# Altium integrated library ALTIUM-WS-TASV-rev17b.IntLib: 78 symbols
Pins are listed as number, name and electrical type; pins without a type are passive.

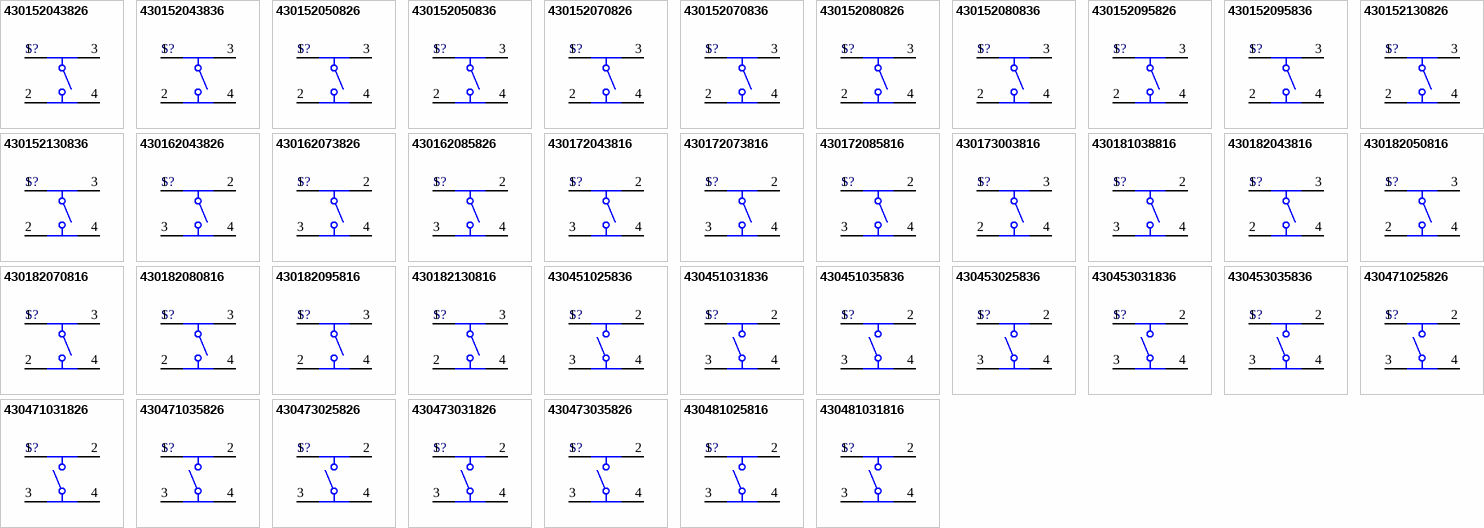
[diagram p0: symbols 430152043826 to 430481031816]

## 430152043826
designator S?
6x6mm SMD Tact Switch WS-TASV, height 4.3 mm, 260 gf; Part Number: 430152043826; Rated Current: 50 mA; Operation Force: 260 gf; Rated Voltage: 12 VDC; ComponentLink1Description: Manufacturer; ComponentLink1URL: http://www.we-online.de; ComponentLink2Description: Datasheet; ComponentLink2URL: http://katalog.we-online.de/em/datasheet/4301x2xxx8x6.pdf; Published Date: Nov. 2017; Publisher: Wurth Elektronik; Life Cycle: 200000; Operating Temperature: -40 to +85 degC; Size: 6x6x4.3 mm
footprint 430152043826
pins: 1, 2, 3, 4

## 430152043836
designator S?
6x6mm SMD Tact Switch WS-TASV, height 4.3 mm, 360 gf; Part Number: 430152043836; Rated Current: 50 mA; Operation Force: 360 gf; Rated Voltage: 12 VDC; ComponentLink1Description: Manufacturer; ComponentLink1URL: http://www.we-online.de; ComponentLink2Description: Datasheet; ComponentLink2URL: http://katalog.we-online.de/em/datasheet/4301x2xxx8x6.pdf; Published Date: Nov. 2017; Publisher: Wurth Elektronik; Life Cycle: 200000; Operating Temperature: -40 to +85 degC; Size: 6x6x4.3 mm
footprint 430152043836
pins: 1, 2, 3, 4

## 430152050826
designator S?
6x6mm SMD Tact Switch WS-TASV, height 5 mm, 260 gf; Part Number: 430152050826; Rated Current: 50 mA; Operation Force: 260 gf; Rated Voltage: 12 VDC; ComponentLink1Description: Manufacturer; ComponentLink1URL: http://www.we-online.de; ComponentLink2Description: Datasheet; ComponentLink2URL: http://katalog.we-online.de/em/datasheet/4301x2xxx8x6.pdf; Published Date: Nov. 2017; Publisher: Wurth Elektronik; Life Cycle: 200000; Operating Temperature: -40 to +85 degC; Size: 6x6x5 mm
footprint 430152050826
pins: 1, 2, 3, 4

## 430152050836
designator S?
6x6mm SMD Tact Switch WS-TASV, height 5 mm, 360 gf; Part Number: 430152050836; Rated Current: 50 mA; Operation Force: 360 gf; Rated Voltage: 12 VDC; ComponentLink1Description: Manufacturer; ComponentLink1URL: http://www.we-online.de; ComponentLink2Description: Datasheet; ComponentLink2URL: http://katalog.we-online.de/em/datasheet/4301x2xxx8x6.pdf; Published Date: Nov. 2017; Publisher: Wurth Elektronik; Life Cycle: 200000; Operating Temperature: -40 to +85 degC; Size: 6x6x5 mm
footprint 430152050836
pins: 1, 2, 3, 4

## 430152070826
designator S?
6x6mm SMD Tact Switch WS-TASV, height 7 mm, 260 gf; Part Number: 430152070826; Rated Current: 50 mA; Operation Force: 260 gf; Rated Voltage: 12 VDC; ComponentLink1Description: Manufacturer; ComponentLink1URL: http://www.we-online.de; ComponentLink2Description: Datasheet; ComponentLink2URL: http://katalog.we-online.de/em/datasheet/4301x2xxx8x6.pdf; Published Date: Nov. 2017; Publisher: Wurth Elektronik; Life Cycle: 200000; Operating Temperature: -40 to +85 degC; Size: 6x6x7 mm
footprint 430152070826
pins: 1, 2, 3, 4

## 430152070836
designator S?
6x6mm SMD Tact Switch WS-TASV, height 7 mm, 360 gf; Part Number: 430152070836; Rated Current: 50 mA; Operation Force: 360 gf; Rated Voltage: 12 VDC; ComponentLink1Description: Manufacturer; ComponentLink1URL: http://www.we-online.de; ComponentLink2Description: Datasheet; ComponentLink2URL: http://katalog.we-online.de/em/datasheet/4301x2xxx8x6.pdf; Published Date: Nov. 2017; Publisher: Wurth Elektronik; Life Cycle: 200000; Operating Temperature: -40 to +85 degC; Size: 6x6x7 mm
footprint 430152070836
pins: 1, 2, 3, 4

## 430152080826
designator S?
6x6mm SMD Tact Switch WS-TASV, height 8 mm, 260 gf; Part Number: 430152080826; Rated Current: 50 mA; Operation Force: 260 gf; Rated Voltage: 12 VDC; ComponentLink1Description: Manufacturer; ComponentLink1URL: http://www.we-online.de; ComponentLink2Description: Datasheet; ComponentLink2URL: http://katalog.we-online.de/em/datasheet/4301x2xxx8x6.pdf; Published Date: Nov. 2017; Publisher: Wurth Elektronik; Life Cycle: 200000; Operating Temperature: -40 to +85 degC; Size: 6x6x8 mm
footprint 430152080826
pins: 1, 2, 3, 4

## 430152080836
designator S?
6x6mm SMD Tact Switch WS-TASV, height 8 mm, 360 gf; Part Number: 430152080836; Rated Current: 50 mA; Operation Force: 360 gf; Rated Voltage: 12 VDC; ComponentLink1Description: Manufacturer; ComponentLink1URL: http://www.we-online.de; ComponentLink2Description: Datasheet; ComponentLink2URL: http://katalog.we-online.de/em/datasheet/4301x2xxx8x6.pdf; Published Date: Nov. 2017; Publisher: Wurth Elektronik; Life Cycle: 200000; Operating Temperature: -40 to +85 degC; Size: 6x6x8 mm
footprint 430152080836
pins: 1, 2, 3, 4

## 430152095826
designator S?
6x6mm SMD Tact Switch WS-TASV, height 9.5 mm, 260 gf; Part Number: 430152095826; Rated Current: 50 mA; Operation Force: 260 gf; Rated Voltage: 12 VDC; ComponentLink1Description: Manufacturer; ComponentLink1URL: http://www.we-online.de; ComponentLink2Description: Datasheet; ComponentLink2URL: http://katalog.we-online.de/em/datasheet/4301x2xxx8x6.pdf; Published Date: Nov. 2017; Publisher: Wurth Elektronik; Life Cycle: 200000; Operating Temperature: -40 to +85 degC; Size: 6x6x9.5 mm
footprint 430152095826
pins: 1, 2, 3, 4

## 430152095836
designator S?
6x6mm SMD Tact Switch WS-TASV, height 9.5 mm, 360 gf; Part Number: 430152095836; Rated Current: 50 mA; Operation Force: 360 gf; Rated Voltage: 12 VDC; ComponentLink1Description: Manufacturer; ComponentLink1URL: http://www.we-online.de; ComponentLink2Description: Datasheet; ComponentLink2URL: http://katalog.we-online.de/em/datasheet/4301x2xxx8x6.pdf; Published Date: Nov. 2017; Publisher: Wurth Elektronik; Life Cycle: 200000; Operating Temperature: -40 to +85 degC; Size: 6x6x9.5 mm
footprint 430152095836
pins: 1, 2, 3, 4

## 430152130826
designator S?
6x6mm SMD Tact Switch WS-TASV, height 13 mm, 260 gf; Part Number: 430152130826; Rated Current: 50 mA; Operation Force: 260 gf; Rated Voltage: 12 VDC; ComponentLink1Description: Manufacturer; ComponentLink1URL: http://www.we-online.de; ComponentLink2Description: Datasheet; ComponentLink2URL: http://katalog.we-online.de/em/datasheet/4301x2xxx8x6.pdf; Published Date: Nov. 2017; Publisher: Wurth Elektronik; Life Cycle: 200000; Operating Temperature: -40 to +85 degC; Size: 6x6x13 mm
footprint 430152130826
pins: 1, 2, 3, 4

## 430152130836
designator S?
6x6mm SMD Tact Switch WS-TASV, height 13 mm, 360 gf; Part Number: 430152130836; Rated Current: 50 mA; Operation Force: 360 gf; Rated Voltage: 12 VDC; ComponentLink1Description: Manufacturer; ComponentLink1URL: http://www.we-online.de; ComponentLink2Description: Datasheet; ComponentLink2URL: http://katalog.we-online.de/em/datasheet/4301x2xxx8x6.pdf; Published Date: Nov. 2017; Publisher: Wurth Elektronik; Life Cycle: 200000; Operating Temperature: -40 to +85 degC; Size: 6x6x13 mm
footprint 430152130836
pins: 1, 2, 3, 4

## 430162043826
designator S?
12x12mm SMD WS-TASV, height 4.3 mm, 260 gf; Part Number: 430162043826; Rated Current: 50 mA; Operation Force: 260 gf; Rated Voltage: 12 VDC; ComponentLink1Description: Manufacturer; ComponentLink1URL: http://www.we-online.de; ComponentLink2Description: Datasheet; ComponentLink2URL: http://katalog.we-online.de/em/datasheet/4301x20438x6.pdf; Published Date: Nov. 2017; Publisher: Wurth Elektronik; Life Cycle: 300000; Operating Temperature: -40 to +85 degC; Size: 12x12x4.3 mm
footprint 430162043826
pins: 1, 2, 3, 4

## 430162073826
designator S?
12x12mm SMD WS-TASV, height 7.3 mm, 260 gf; Part Number: 430162073826; Rated Current: 50 mA; Operation Force: 260 gf; Rated Voltage: 12 VDC; ComponentLink1Description: Manufacturer; ComponentLink1URL: http://www.we-online.de; ComponentLink2Description: Datasheet; ComponentLink2URL: http://katalog.we-online.de/em/datasheet/430162073826.pdf; Published Date: Nov. 2017; Publisher: Wurth Elektronik; Life Cycle: 300000; Operating Temperature: -40 to +85 degC; Size: 12x12x7.3 mm
footprint 430162073826
pins: 1, 2, 3, 4

## 430162085826
designator S?
12x12mm SMD WS-TASV, height 8.5 mm, 260 gf; Part Number: 430162085826; Rated Current: 50 mA; Operation Force: 260 gf; Rated Voltage: 12 VDC; ComponentLink1Description: Manufacturer; ComponentLink1URL: http://www.we-online.de; ComponentLink2Description: Datasheet; ComponentLink2URL: http://katalog.we-online.de/em/datasheet/4301x20858x6.pdf; Published Date: Nov. 2017; Publisher: Wurth Elektronik; Life Cycle: 300000; Operating Temperature: -40 to +85 degC; Size: 12x12x8.5 mm
footprint 430162085826
pins: 1, 2, 3, 4

## 430172043816
designator S?
12x12mm SMD WS-TASV, height 4.3 mm, 160 gf; Part Number: 430172043816; Rated Current: 50 mA; Operation Force: 160 gf; Rated Voltage: 12 VDC; ComponentLink1Description: Manufacturer; ComponentLink1URL: http://www.we-online.de; ComponentLink2Description: Datasheet; ComponentLink2URL: http://katalog.we-online.de/em/datasheet/4301x20438x6.pdf; Published Date: Nov. 2017; Publisher: Wurth Elektronik; Life Cycle: 500000; Operating Temperature: -40 to +85 degC; Size: 12x12x4.3 mm
footprint 430172043816
pins: 1, 2, 3, 4

## 430172073816
designator S?
12x12mm SMD WS-TASV, height 7.3 mm, 160 gf; Part Number: 430172073816; Rated Current: 50 mA; Operation Force: 160 gf; Rated Voltage: 12 VDC; ComponentLink1Description: Manufacturer; ComponentLink1URL: http://www.we-online.de; ComponentLink2Description: Datasheet; ComponentLink2URL: http://katalog.we-online.de/em/datasheet/4301x20738x6.pdf; Published Date: Nov. 2017; Publisher: Wurth Elektronik; Life Cycle: 500000; Operating Temperature: -40 to +85 degC; Size: 12x12x7.3 mm
footprint 430172073816
pins: 1, 2, 3, 4

## 430172085816
designator S?
12x12mm SMD WS-TASV, height 8.5 mm, 160 gf; Part Number: 430172085816; Rated Current: 50 mA; Operation Force: 160 gf; Rated Voltage: 12 VDC; ComponentLink1Description: Manufacturer; ComponentLink1URL: http://www.we-online.de; ComponentLink2Description: Datasheet; ComponentLink2URL: http://katalog.we-online.de/em/datasheet/4301x20858x6.pdf; Published Date: Nov. 2017; Publisher: Wurth Elektronik; Life Cycle: 500000; Operating Temperature: -40 to +85 degC; Size: 12x12x8.5 mm
footprint 430172085816
pins: 1, 2, 3, 4

## 430173003816
designator S?
3.7x3.7mm J-Bend SMD Tact Switch WS-TASV, height 0.35 mm, 160 gf; Part Number: 430173003816; Rated Current: 50 mA; Operation Force: 160 gf; Rated Voltage: 12 VDC; ComponentLink1Description: Manufacturer; ComponentLink1URL: http://www.we-online.de; ComponentLink2Description: Datasheet; ComponentLink2URL: http://katalog.we-online.de/em/datasheet/430173003816.pdf; Published Date: Nov. 2017; Publisher: Wurth Elektronik; Life Cycle: 500000; Operating Temperature: -40 to +85 degC; Size: 3.7x3.7x0.35 mm
footprint 430173003816
pins: 1, 2, 3, 4

## 430181038816
designator S?
4.5x4.5mm SMD WS-TASV, height 3.8 mm, 160 gf; Part Number: 430181038816; Rated Current: 50 mA; Operation Force: 160 gf; Rated Voltage: 12 VDC; ComponentLink1Description: Manufacturer; ComponentLink1URL: http://www.we-online.de; ComponentLink2Description: Datasheet; ComponentLink2URL: http://katalog.we-online.de/em/datasheet/430181038816.pdf; Published Date: Nov. 2017; Publisher: Wurth Elektronik; Life Cycle: 1000000; Operating Temperature: -40 to +85 degC; Size: 4.5x4.5x3.8 mm
footprint 430181038816
pins: 1, 2, 3, 4

## 430182043816
designator S?
6x6mm SMD Tact Switch WS-TASV, height 4.3 mm, 160 gf; Part Number: 430182043816; Rated Current: 50 mA; Operation Force: 160 gf; Rated Voltage: 12 VDC; ComponentLink1Description: Manufacturer; ComponentLink1URL: http://www.we-online.de; ComponentLink2Description: Datasheet; ComponentLink2URL: http://katalog.we-online.de/em/datasheet/4301x2xxx8x6.pdf; Published Date: Nov. 2017; Publisher: Wurth Elektronik; Life Cycle: 1000000; Operating Temperature: -40 to +85 degC; Size: 6x6x4.3 mm
footprint 430182043816
pins: 1, 2, 3, 4

## 430182050816
designator S?
6x6mm SMD Tact Switch WS-TASV, height 5 mm, 160 gf; Part Number: 430182050816; Rated Current: 50 mA; Operation Force: 160 gf; Rated Voltage: 12 VDC; ComponentLink1Description: Manufacturer; ComponentLink1URL: http://www.we-online.de; ComponentLink2Description: Datasheet; ComponentLink2URL: http://katalog.we-online.de/em/datasheet/4301x2xxx8x6.pdf; Published Date: Nov. 2017; Publisher: Wurth Elektronik; Life Cycle: 1000000; Operating Temperature: -40 to +85 degC; Size: 6x6x5 mm
footprint 430182050816
pins: 1, 2, 3, 4

## 430182070816
designator S?
6x6mm SMD Tact Switch WS-TASV, height 7 mm, 160 gf; Part Number: 430182070816; Rated Current: 50 mA; Operation Force: 160 gf; Rated Voltage: 12 VDC; ComponentLink1Description: Manufacturer; ComponentLink1URL: http://www.we-online.de; ComponentLink2Description: Datasheet; ComponentLink2URL: http://katalog.we-online.de/em/datasheet/4301x2xxx8x6.pdf; Published Date: Nov. 2017; Publisher: Wurth Elektronik; Life Cycle: 1000000; Operating Temperature: -40 to +85 degC; Size: 6x6x7 mm
footprint 430182070816
pins: 1, 2, 3, 4

## 430182080816
designator S?
6x6mm SMD Tact Switch WS-TASV, height 8 mm, 160 gf; Part Number: 430182080816; Rated Current: 50 mA; Operation Force: 160 gf; Rated Voltage: 12 VDC; ComponentLink1Description: Manufacturer; ComponentLink1URL: http://www.we-online.de; ComponentLink2Description: Datasheet; ComponentLink2URL: http://katalog.we-online.de/em/datasheet/4301x2xxx8x6.pdf; Published Date: Nov. 2017; Publisher: Wurth Elektronik; Life Cycle: 1000000; Operating Temperature: -40 to +85 degC; Size: 6x6x8 mm
footprint 430182080816
pins: 1, 2, 3, 4

## 430182095816
designator S?
6x6mm SMD Tact Switch WS-TASV, height 9.5 mm, 160 gf; Part Number: 430182095816; Rated Current: 50 mA; Operation Force: 160 gf; Rated Voltage: 12 VDC; ComponentLink1Description: Manufacturer; ComponentLink1URL: http://www.we-online.de; ComponentLink2Description: Datasheet; ComponentLink2URL: http://katalog.we-online.de/em/datasheet/4301x2xxx8x6.pdf; Published Date: Nov. 2017; Publisher: Wurth Elektronik; Life Cycle: 1000000; Operating Temperature: -40 to +85 degC; Size: 6x6x9.5 mm
footprint 430182095816
pins: 1, 2, 3, 4

## 430182130816
designator S?
6x6mm SMD Tact Switch WS-TASV, height 13 mm, 160 gf; Part Number: 430182130816; Rated Current: 50 mA; Operation Force: 160 gf; Rated Voltage: 12 VDC; ComponentLink1Description: Manufacturer; ComponentLink1URL: http://www.we-online.de; ComponentLink2Description: Datasheet; ComponentLink2URL: http://katalog.we-online.de/em/datasheet/4301x2xxx8x6.pdf; Published Date: Nov. 2017; Publisher: Wurth Elektronik; Life Cycle: 1000000; Operating Temperature: -40 to +85 degC; Size: 6x6x13 mm
footprint 430182130816
pins: 1, 2, 3, 4

## 430451025836
designator S?
6x6mm SMD washable WS-TASV, height 2.5 mm, 360 gf; Part Number: 430451025836; Rated Current: 50 mA; Operation Force: 360 gf; Rated Voltage: 12 VDC; ComponentLink1Description: Manufacturer; ComponentLink1URL: http://www.we-online.de; ComponentLink2Description: Datasheet; ComponentLink2URL: http://katalog.we-online.de/em/datasheet/4304x1xxx8x6.pdf; Published Date: Nov. 2017; Publisher: Wurth Elektronik; Life Cycle: 200000; Operating Temperature: -40 to +85 degC; Size: 6x6x2.5 mm
footprint 430451025836
pins: 1, 2, 3, 4

## 430451031836
designator S?
6x6mm SMD washable WS-TASV, height 3.1 mm, 360 gf; Part Number: 430451031836; Rated Current: 50 mA; Operation Force: 360 gf; Rated Voltage: 12 VDC; ComponentLink1Description: Manufacturer; ComponentLink1URL: http://www.we-online.de; ComponentLink2Description: Datasheet; ComponentLink2URL: http://katalog.we-online.de/em/datasheet/4304x1xxx8x6.pdf; Published Date: Nov. 2017; Publisher: Wurth Elektronik; Life Cycle: 200000; Operating Temperature: -40 to +85 degC; Size: 6x6x3.1 mm
footprint 430451031836
pins: 1, 2, 3, 4

## 430451035836
designator S?
6x6mm SMD washable WS-TASV, height 3.5 mm, 360 gf; Part Number: 430451035836; Rated Current: 50 mA; Operation Force: 360 gf; Rated Voltage: 12 VDC; ComponentLink1Description: Manufacturer; ComponentLink1URL: http://www.we-online.de; ComponentLink2Description: Datasheet; ComponentLink2URL: http://katalog.we-online.de/em/datasheet/4304x1xxx8x6.pdf; Published Date: Nov. 2017; Publisher: Wurth Elektronik; Life Cycle: 200000; Operating Temperature: -40 to +85 degC; Size: 6x6x3.5 mm
footprint 430451035836
pins: 1, 2, 3, 4

## 430453025836
designator S?
6x6mm SMD J-Bend washable WS-TASV, height 2.5 mm, 360 gf; Part Number: 430453025836; Rated Current: 50 mA; Operation Force: 360 gf; Rated Voltage: 12 VDC; ComponentLink1Description: Manufacturer; ComponentLink1URL: http://www.we-online.de; ComponentLink2Description: Datasheet; ComponentLink2URL: http://katalog.we-online.de/em/datasheet/4304x3xxx8x6.pdf; Published Date: Nov. 2017; Publisher: Wurth Elektronik; Life Cycle: 200000; Operating Temperature: -40 to +85 degC; Size: 6x6x2.5 mm
footprint 430453025836
pins: 1, 2, 3, 4

## 430453031836
designator S?
6x6mm SMD J-Bend washable WS-TASV, height 3.1 mm, 360 gf; Part Number: 430453031836; Rated Current: 50 mA; Operation Force: 360 gf; Rated Voltage: 12 VDC; ComponentLink1Description: Manufacturer; ComponentLink1URL: http://www.we-online.de; ComponentLink2Description: Datasheet; ComponentLink2URL: http://katalog.we-online.de/em/datasheet/4304x3xxx8x6.pdf; Published Date: Nov. 2017; Publisher: Wurth Elektronik; Life Cycle: 200000; Operating Temperature: -40 to +85 degC; Size: 6x6x3.1 mm
footprint 430453031836
pins: 1, 2, 3, 4

## 430453035836
designator S?
6x6mm SMD J-Bend washable WS-TASV, height 3.5 mm, 360 gf; Part Number: 430453035836; Rated Current: 50 mA; Operation Force: 360 gf; Rated Voltage: 12 VDC; ComponentLink1Description: Manufacturer; ComponentLink1URL: http://www.we-online.de; ComponentLink2Description: Datasheet; ComponentLink2URL: http://katalog.we-online.de/em/datasheet/4304x3xxx8x6.pdf; Published Date: Nov. 2017; Publisher: Wurth Elektronik; Life Cycle: 200000; Operating Temperature: -40 to +85 degC; Size: 6x6x3.5 mm
footprint 430453035836
pins: 1, 2, 3, 4

## 430471025826
designator S?
6x6mm SMD washable WS-TASV, height 2.5 mm, 260 gf; Part Number: 430471025826; Rated Current: 50 mA; Operation Force: 260 gf; Rated Voltage: 12 VDC; ComponentLink1Description: Manufacturer; ComponentLink1URL: http://www.we-online.de; ComponentLink2Description: Datasheet; ComponentLink2URL: http://katalog.we-online.de/em/datasheet/4304x1xxx8x6.pdf; Published Date: Nov. 2017; Publisher: Wurth Elektronik; Life Cycle: 500000; Operating Temperature: -40 to +85 degC; Size: 6x6x2.5 mm
footprint 430471025826
pins: 1, 2, 3, 4

## 430471031826
designator S?
6x6mm SMD washable WS-TASV, height 3.1 mm, 260 gf; Part Number: 430471031826; Rated Current: 50 mA; Operation Force: 260 gf; Rated Voltage: 12 VDC; ComponentLink1Description: Manufacturer; ComponentLink1URL: http://www.we-online.de; ComponentLink2Description: Datasheet; ComponentLink2URL: http://katalog.we-online.de/em/datasheet/4304x1xxx8x6.pdf; Published Date: Nov. 2017; Publisher: Wurth Elektronik; Life Cycle: 500000; Operating Temperature: -40 to +85 degC; Size: 6x6x3.1 mm
footprint 430471031826
pins: 1, 2, 3, 4

## 430471035826
designator S?
6x6mm SMD washable WS-TASV, height 3.5 mm, 260 gf; Part Number: 430471035826; Rated Current: 50 mA; Operation Force: 260 gf; Rated Voltage: 12 VDC; ComponentLink1Description: Manufacturer; ComponentLink1URL: http://www.we-online.de; ComponentLink2Description: Datasheet; ComponentLink2URL: http://katalog.we-online.de/em/datasheet/4304x1xxx8x6.pdf; Published Date: Nov. 2017; Publisher: Wurth Elektronik; Life Cycle: 500000; Operating Temperature: -40 to +85 degC; Size: 6x6x3.5 mm
footprint 430471035826
pins: 1, 2, 3, 4

## 430473025826
designator S?
6x6mm SMD J-Bend washable WS-TASV, height 2.5 mm, 260 gf; Part Number: 430473025826; Rated Current: 50 mA; Operation Force: 260 gf; Rated Voltage: 12 VDC; ComponentLink1Description: Manufacturer; ComponentLink1URL: http://www.we-online.de; ComponentLink2Description: Datasheet; ComponentLink2URL: http://katalog.we-online.de/em/datasheet/4304x3xxx8x6.pdf; Published Date: Nov. 2017; Publisher: Wurth Elektronik; Life Cycle: 500000; Operating Temperature: -40 to +85 degC; Size: 6x6x2.5 mm
footprint 430473025826
pins: 1, 2, 3, 4

## 430473031826
designator S?
6x6mm SMD J-Bend washable WS-TASV, height 3.1 mm, 260 gf; Part Number: 430473031826; Rated Current: 50 mA; Operation Force: 260 gf; Rated Voltage: 12 VDC; ComponentLink1Description: Manufacturer; ComponentLink1URL: http://www.we-online.de; ComponentLink2Description: Datasheet; ComponentLink2URL: http://katalog.we-online.de/em/datasheet/4304x3xxx8x6.pdf; Published Date: Nov. 2017; Publisher: Wurth Elektronik; Life Cycle: 500000; Operating Temperature: -40 to +85 degC; Size: 6x6x3.1 mm
footprint 430473031826
pins: 1, 2, 3, 4

## 430473035826
designator S?
6x6mm SMD J-Bend washable WS-TASV, height 3.5 mm, 260 gf; Part Number: 430473035826; Rated Current: 50 mA; Operation Force: 260 gf; Rated Voltage: 12 VDC; ComponentLink1Description: Manufacturer; ComponentLink1URL: http://www.we-online.de; ComponentLink2Description: Datasheet; ComponentLink2URL: http://katalog.we-online.de/em/datasheet/4304x3xxx8x6.pdf; Published Date: Nov. 2017; Publisher: Wurth Elektronik; Life Cycle: 500000; Operating Temperature: -40 to +85 degC; Size: 6x6x3.5 mm
footprint 430473035826
pins: 1, 2, 3, 4

## 430481025816
designator S?
6x6mm SMD washable WS-TASV, height 2.5 mm, 160 gf; Part Number: 430481025816; Rated Current: 50 mA; Operation Force: 160 gf; Rated Voltage: 12 VDC; ComponentLink1Description: Manufacturer; ComponentLink1URL: http://www.we-online.de; ComponentLink2Description: Datasheet; ComponentLink2URL: http://katalog.we-online.de/em/datasheet/4304x1xxx8x6.pdf; Published Date: Nov. 2017; Publisher: Wurth Elektronik; Life Cycle: 1000000; Operating Temperature: -40 to +85 degC; Size: 6x6x2.5 mm
footprint 430481025816
pins: 1, 2, 3, 4

## 430481031816
designator S?
6x6mm SMD washable WS-TASV, height 3.1 mm, 160 gf; Part Number: 430481031816; Rated Current: 50 mA; Operation Force: 160 gf; Rated Voltage: 12 VDC; ComponentLink1Description: Manufacturer; ComponentLink1URL: http://www.we-online.de; ComponentLink2Description: Datasheet; ComponentLink2URL: http://katalog.we-online.de/em/datasheet/4304x1xxx8x6.pdf; Published Date: Nov. 2017; Publisher: Wurth Elektronik; Life Cycle: 1000000; Operating Temperature: -40 to +85 degC; Size: 6x6x3.1 mm
footprint 430481031816
pins: 1, 2, 3, 4

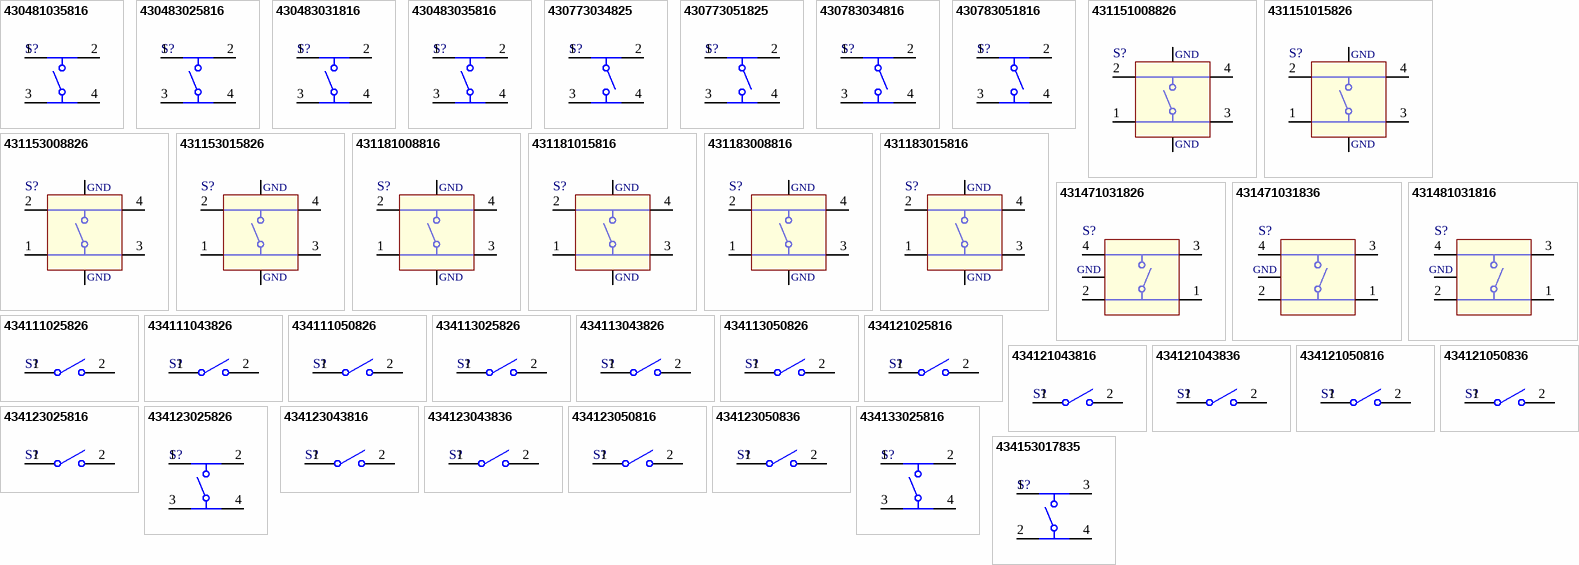
[diagram p1: symbols 430481035816 to 434153017835]

## 430481035816
designator S?
6x6mm SMD washable WS-TASV, height 3.5 mm, 160 gf; Part Number: 430481035816; Rated Current: 50 mA; Operation Force: 160 gf; Rated Voltage: 12 VDC; ComponentLink1Description: Manufacturer; ComponentLink1URL: http://www.we-online.de; ComponentLink2Description: Datasheet; ComponentLink2URL: http://katalog.we-online.de/em/datasheet/4304x1xxx8x6.pdf; Published Date: Nov. 2017; Publisher: Wurth Elektronik; Life Cycle: 1000000; Operating Temperature: -40 to +85 degC; Size: 6x6x3.5 mm
footprint 430481035816
pins: 1, 2, 3, 4

## 430483025816
designator S?
6x6mm SMD J-Bend washable WS-TASV, height 2.5 mm, 160 gf; Part Number: 430483025816; Rated Current: 50 mA; Operation Force: 160 gf; Rated Voltage: 12 VDC; ComponentLink1Description: Manufacturer; ComponentLink1URL: http://www.we-online.de; ComponentLink2Description: Datasheet; ComponentLink2URL: http://katalog.we-online.de/em/datasheet/4304x3xxx8x6.pdf; Published Date: Nov. 2017; Publisher: Wurth Elektronik; Life Cycle: 1000000; Operating Temperature: -40 to +85 degC; Size: 6x6x2.5 mm
footprint 430483025816
pins: 1, 2, 3, 4

## 430483031816
designator S?
6x6mm SMD J-Bend washable WS-TASV, height 3.1 mm, 160 gf; Part Number: 430483031816; Rated Current: 50 mA; Operation Force: 160 gf; Rated Voltage: 12 VDC; ComponentLink1Description: Manufacturer; ComponentLink1URL: http://www.we-online.de; ComponentLink2Description: Datasheet; ComponentLink2URL: http://katalog.we-online.de/em/datasheet/4304x3xxx8x6.pdf; Published Date: Nov. 2017; Publisher: Wurth Elektronik; Life Cycle: 1000000; Operating Temperature: -40 to +85 degC; Size: 6x6x3.1 mm
footprint 430483031816
pins: 1, 2, 3, 4

## 430483035816
designator S?
6x6mm SMD J-Bend washable WS-TASV, height 3.5 mm, 160 gf; Part Number: 430483035816; Rated Current: 50 mA; Operation Force: 160 gf; Rated Voltage: 12 VDC; ComponentLink1Description: Manufacturer; ComponentLink1URL: http://www.we-online.de; ComponentLink2Description: Datasheet; ComponentLink2URL: http://katalog.we-online.de/em/datasheet/4304x3xxx8x6.pdf; Published Date: Nov. 2017; Publisher: Wurth Elektronik; Life Cycle: 1000000; Operating Temperature: -40 to +85 degC; Size: 6x6x3.5 mm
footprint 430483035816
pins: 1, 2, 3, 4

## 430773034825
designator S?
6x6mm J-Hook SMD Hermetic Tact Switch WS-TASV, height 3.4 mm, 250 gf; Part Number: 430773034825; Rated Current: 50 mA; Operation Force: 250 gf; Rated Voltage: 12 VDC; ComponentLink1Description: Manufacturer; ComponentLink1URL: http://www.we-online.de; ComponentLink2Description: Datasheet; ComponentLink2URL: http://katalog.we-online.de/em/datasheet/430773034825.pdf; Published Date: Nov. 2017; Publisher: Wurth Elektronik; Life Cycle: 500000; Operating Temperature: -40 to +85 degC; Size: 6x6x3.4 mm
footprint 430773034825
pins: 1, 2, 3, 4

## 430773051825
designator S?
6x6mm J-Hook SMD Hermetic Tact Switch WS-TASV, height 5.1 mm, 250 gf; Part Number: 430773051825; Rated Current: 50 mA; Operation Force: 250 gf; Rated Voltage: 12 VDC; ComponentLink1Description: Manufacturer; ComponentLink1URL: http://www.we-online.de; ComponentLink2Description: Datasheet; ComponentLink2URL: http://katalog.we-online.de/em/datasheet/430773051825.pdf; Published Date: Nov. 2017; Publisher: Wurth Elektronik; Life Cycle: 500000; Operating Temperature: -40 to +85 degC; Size: 6x6x5.1 mm
footprint 430773051825
pins: 1, 2, 3, 4

## 430783034816
designator S?
6x6mm J-Hook SMD Hermetic Tact Switch WS-TASV, height 3.4 mm, 160 gf; Part Number: 430783034816; Rated Current: 50 mA; Operation Force: 160 gf; Rated Voltage: 12 VDC; ComponentLink1Description: Manufacturer; ComponentLink1URL: http://www.we-online.de; ComponentLink2Description: Datasheet; ComponentLink2URL: http://katalog.we-online.de/em/datasheet/430783034816.pdf; Published Date: Nov. 2017; Publisher: Wurth Elektronik; Life Cycle: 1000000; Operating Temperature: -40 to +85 degC; Size: 6x6x3.4 mm
footprint 430783034816
pins: 1, 2, 3, 4

## 430783051816
designator S?
6x6mm J-Hook SMD Hermetic Tact Switch WS-TASV, height 5.1 mm, 160 gf; Part Number: 430783051816; Rated Current: 50 mA; Operation Force: 160 gf; Rated Voltage: 12 VDC; ComponentLink1Description: Manufacturer; ComponentLink1URL: http://www.we-online.de; ComponentLink2Description: Datasheet; ComponentLink2URL: http://katalog.we-online.de/em/datasheet/430783051816.pdf; Published Date: Nov. 2017; Publisher: Wurth Elektronik; Life Cycle: 1000000; Operating Temperature: -40 to +85 degC; Size: 6x6x5.1 mm
footprint 430783051816
pins: 1, 2, 3, 4

## 431151008826
designator S?
5x5mm SMD with ground terminal WS-TASV, height 0.8 mm, 260 gf; Part Number: 431151008826; Rated Current: 20 mA; Operation Force: 260 gf; Rated Voltage: 15 VDC; ComponentLink1Description: Manufacturer; ComponentLink1URL: http://www.we-online.de; ComponentLink2Description: Datasheet; ComponentLink2URL: http://katalog.we-online.de/em/datasheet/4311x10088x6.pdf; Published Date: Nov. 2017; Publisher: Wurth Elektronik; Life Cycle: 200000; Operating Temperature: -40 to +85 degC; Size: 5x5x0.8 mm
footprint 431151008826
pins: 1, 2, 3, 4, GND1 GND, GND2 GND

## 431151015826
designator S?
5x5mm SMD with ground terminal WS-TASV, height 1.5 mm, 260 gf; Part Number: 431151015826; Rated Current: 20 mA; Operation Force: 260 gf; Rated Voltage: 15 VDC; ComponentLink1Description: Manufacturer; ComponentLink1URL: http://www.we-online.de; ComponentLink2Description: Datasheet; ComponentLink2URL: http://katalog.we-online.de/em/datasheet/4311x10158x6.pdf; Published Date: Nov. 2017; Publisher: Wurth Elektronik; Life Cycle: 200000; Operating Temperature: -40 to +85 degC; Size: 5x5x1.5 mm
footprint 431151015826
pins: 1, 2, 3, 4, GND1 GND, GND2 GND

## 431153008826
designator S?
5x5mm J-Bend SMD with ground terminal WS-TASV, height 0.8 mm, 260 gf; Part Number: 431153008826; Rated Current: 20 mA; Operation Force: 260 gf; Rated Voltage: 15 VDC; ComponentLink1Description: Manufacturer; ComponentLink1URL: http://www.we-online.de; ComponentLink2Description: Datasheet; ComponentLink2URL: http://katalog.we-online.de/em/datasheet/4311x30088x6.pdf; Published Date: Nov. 2017; Publisher: Wurth Elektronik; Life Cycle: 200000; Operating Temperature: -40 to +85 degC; Size: 5x5x0.8 mm
footprint 431153008826
pins: 1, 2, 3, 4, GND1 GND, GND2 GND

## 431153015826
designator S?
5x5mm J-Bend SMD with ground terminal WS-TASV, height 1.5 mm, 260 gf; Part Number: 431153015826; Rated Current: 20 mA; Operation Force: 260 gf; Rated Voltage: 15 VDC; ComponentLink1Description: Manufacturer; ComponentLink1URL: http://www.we-online.de; ComponentLink2Description: Datasheet; ComponentLink2URL: http://katalog.we-online.de/em/datasheet/4311x30158x6.pdf; Published Date: Nov. 2017; Publisher: Wurth Elektronik; Life Cycle: 200000; Operating Temperature: -40 to +85 degC; Size: 5x5x1.5 mm
footprint 431153015826
pins: 1, 2, 3, 4, GND1 GND, GND2 GND

## 431181008816
designator S?
5x5mm SMD with ground terminal WS-TASV, height 0.8 mm, 160 gf; Part Number: 431181008816; Rated Current: 20 mA; Operation Force: 160 gf; Rated Voltage: 15 VDC; ComponentLink1Description: Manufacturer; ComponentLink1URL: http://www.we-online.de; ComponentLink2Description: Datasheet; ComponentLink2URL: http://katalog.we-online.de/em/datasheet/4311x10088x6.pdf; Published Date: Nov. 2017; Publisher: Wurth Elektronik; Life Cycle: 1000000; Operating Temperature: -40 to +85 degC; Size: 5x5x0.8 mm
footprint 431181008816
pins: 1, 2, 3, 4, GND1 GND, GND2 GND

## 431181015816
designator S?
5x5mm SMD with ground terminal WS-TASV, height 1.5 mm, 160 gf; Part Number: 431181015816; Rated Current: 20 mA; Operation Force: 160 gf; Rated Voltage: 15 VDC; ComponentLink1Description: Manufacturer; ComponentLink1URL: http://www.we-online.de; ComponentLink2Description: Datasheet; ComponentLink2URL: http://katalog.we-online.de/em/datasheet/4311x10158x6.pdf; Published Date: Nov. 2017; Publisher: Wurth Elektronik; Life Cycle: 1000000; Operating Temperature: -40 to +85 degC; Size: 5x5x1.5 mm
footprint 431181015816 (Tact Switch, SMD, body 5x5mm)
pins: 1, 2, 3, 4, GND1 GND, GND2 GND

## 431183008816
designator S?
5x5mm J-Bend SMD with ground terminal WS-TASV, height 0.8 mm, 160 gf; Part Number: 431183008816; Rated Current: 20 mA; Operation Force: 160 gf; Rated Voltage: 15 VDC; ComponentLink1Description: Manufacturer; ComponentLink1URL: http://www.we-online.de; ComponentLink2Description: Datasheet; ComponentLink2URL: http://katalog.we-online.de/em/datasheet/4311x30088x6.pdf; Published Date: Nov. 2017; Publisher: Wurth Elektronik; Life Cycle: 1000000; Operating Temperature: -40 to +85 degC; Size: 5x5x0.8 mm
footprint 431183008816
pins: 1, 2, 3, 4, GND1 GND, GND2 GND

## 431183015816
designator S?
5x5mm J-Bend SMD with ground terminal WS-TASV, height 1.5 mm, 160 gf; Part Number: 431183015816; Rated Current: 20 mA; Operation Force: 160 gf; Rated Voltage: 15 VDC; ComponentLink1Description: Manufacturer; ComponentLink1URL: http://www.we-online.de; ComponentLink2Description: Datasheet; ComponentLink2URL: http://katalog.we-online.de/em/datasheet/4311x30158x6.pdf; Published Date: Nov. 2017; Publisher: Wurth Elektronik; Life Cycle: 1000000; Operating Temperature: -40 to +85 degC; Size: 5x5x1.5 mm
footprint 431183015816
pins: 1, 2, 3, 4, GND1 GND, GND2 GND

## 431471031826
designator S?
6x6mm SMD with ground terminal WS-TASV, height 3.1 mm, 260 gf; Part Number: 431471031826; Rated Current: 50 mA; Operation Force: 260 gf; Rated Voltage: 12 VDC; ComponentLink1Description: Manufacturer; ComponentLink1URL: http://www.we-online.de; ComponentLink2Description: Datasheet; ComponentLink2URL: http://katalog.we-online.de/em/datasheet/4314x10318x6.pdf; Published Date: Nov. 2017; Publisher: Wurth Elektronik; Life Cycle: 500000; Operating Temperature: -40 to +85 degC; Size: 6x6x3.1 mm
footprint 431471031826
pins: 1, 2, 3, 4, GND

## 431471031836
designator S?
6x6mm SMD with ground terminal WS-TASV, height 3.1 mm, 360 gf; Part Number: 431471031836; Rated Current: 50 mA; Operation Force: 360 gf; Rated Voltage: 12 VDC; ComponentLink1Description: Manufacturer; ComponentLink1URL: http://www.we-online.de; ComponentLink2Description: Datasheet; ComponentLink2URL: http://katalog.we-online.de/em/datasheet/4314x10318x6.pdf; Published Date: Nov. 2017; Publisher: Wurth Elektronik; Life Cycle: 500000; Operating Temperature: -40 to +85 degC; Size: 6x6x3.1 mm
footprint 431471031836
pins: 1, 2, 3, 4, GND

## 431481031816
designator S?
6x6mm SMD with ground terminal WS-TASV, height 3.1 mm, 160 gf; Part Number: 431481031816; Rated Current: 50 mA; Operation Force: 160 gf; Rated Voltage: 12 VDC; ComponentLink1Description: Manufacturer; ComponentLink1URL: http://www.we-online.de; ComponentLink2Description: Datasheet; ComponentLink2URL: http://katalog.we-online.de/em/datasheet/4314x10318x6.pdf; Published Date: Nov. 2017; Publisher: Wurth Elektronik; Life Cycle: 1000000; Operating Temperature: -40 to +85 degC; Size: 6x6x3.1 mm
footprint 431481031816
pins: 1, 2, 3, 4, GND

## 434111025826
designator S?
6x3.8mm SMD WS-TASV, height 2.5 mm, 260 gf; Part Number: 434111025826; Rated Current: 50 mA; Operation Force: 260 gf; Rated Voltage: 12 VDC; ComponentLink1Description: Manufacturer; ComponentLink1URL: http://www.we-online.de; ComponentLink2Description: Datasheet; ComponentLink2URL: http://katalog.we-online.de/em/datasheet/4341x10258xx.pdf; Published Date: Nov. 2017; Publisher: Wurth Elektronik; Life Cycle: 30000; Operating Temperature: -40 to +85 degC; Size: 6x3.8x2.5 mm
footprint 434111025826
pins: 1, 2

## 434111043826
designator S?
6x3.5mm SMD WS-TASV, height 4.3 mm, 260 gf; Part Number: 434111043826; Rated Current: 50 mA; Operation Force: 260 gf; Rated Voltage: 12 VDC; ComponentLink1Description: Manufacturer; ComponentLink1URL: http://www.we-online.de; ComponentLink2Description: Datasheet; ComponentLink2URL: http://katalog.we-online.de/em/datasheet/4341x1xxx8x6.pdf; Published Date: Nov. 2017; Publisher: Wurth Elektronik; Life Cycle: 30000; Operating Temperature: -40 to +85 degC; Size: 6x3.5x4.3 mm
footprint 434111043826
pins: 1, 2

## 434111050826
designator S?
6x3.5mm SMD WS-TASV, height 5 mm, 260 gf; Part Number: 434111050826; Rated Current: 50 mA; Operation Force: 260 gf; Rated Voltage: 12 VDC; ComponentLink1Description: Manufacturer; ComponentLink1URL: http://www.we-online.de; ComponentLink2Description: Datasheet; ComponentLink2URL: http://katalog.we-online.de/em/datasheet/4341x1xxx8x6.pdf; Published Date: Nov. 2017; Publisher: Wurth Elektronik; Life Cycle: 30000; Operating Temperature: -40 to +85 degC; Size: 6x3.5x5 mm
footprint 434111050826
pins: 1, 2

## 434113025826
designator S?
6x3.8mm SMD J-Bend WS-TASV, height 2.5 mm, 260 gf; Part Number: 434113025826; Rated Current: 50 mA; Operation Force: 260 gf; Rated Voltage: 12 VDC; ComponentLink1Description: Manufacturer; ComponentLink1URL: http://www.we-online.de; ComponentLink2Description: Datasheet; ComponentLink2URL: http://katalog.we-online.de/em/datasheet/4341x30258xx.pdf; Published Date: Nov. 2017; Publisher: Wurth Elektronik; Life Cycle: 30000; Operating Temperature: -40 to +85 degC; Size: 6x3.8x2.5 mm
footprint 434113025826
pins: 1, 2

## 434113043826
designator S?
6x3.5mm SMD-J-Bend WS-TASV, height 4.3 mm, 260 gf; Part Number: 434113043826; Rated Current: 50 mA; Operation Force: 260 gf; Rated Voltage: 12 VDC; ComponentLink1Description: Manufacturer; ComponentLink1URL: http://www.we-online.de; ComponentLink2Description: Datasheet; ComponentLink2URL: http://katalog.we-online.de/em/datasheet/4341x3xxx8x6.pdf; Published Date: Nov. 2017; Publisher: Wurth Elektronik; Life Cycle: 30000; Operating Temperature: -40 to +85 degC; Size: 6x3.5x4.3 mm
footprint 434113043826
pins: 1, 2

## 434113050826
designator S?
6x3.5mm SMD-J-Bend WS-TASV, height 5 mm, 260 gf; Part Number: 434113050826; Rated Current: 50 mA; Operation Force: 260 gf; Rated Voltage: 12 VDC; ComponentLink1Description: Manufacturer; ComponentLink1URL: http://www.we-online.de; ComponentLink2Description: Datasheet; ComponentLink2URL: http://katalog.we-online.de/em/datasheet/4341x3xxx8x6.pdf; Published Date: Nov. 2017; Publisher: Wurth Elektronik; Life Cycle: 30000; Operating Temperature: -40 to +85 degC; Size: 6x3.5x5 mm
footprint 434113050826
pins: 1, 2

## 434121025816
designator S?
6x3.8mm SMD WS-TASV, height 2.5 mm, 160 gf; Part Number: 434121025816; Rated Current: 50 mA; Operation Force: 160 gf; Rated Voltage: 12 VDC; ComponentLink1Description: Manufacturer; ComponentLink1URL: http://www.we-online.de; ComponentLink2Description: Datasheet; ComponentLink2URL: http://katalog.we-online.de/em/datasheet/4341x10258xx.pdf; Published Date: Nov. 2017; Publisher: Wurth Elektronik; Life Cycle: 50000; Operating Temperature: -40 to +85 degC; Size: 6x3.8x2.5 mm
footprint 434121025816
pins: 1, 2

## 434121043816
designator S?
6x3.5mm SMD WS-TASV, height 4.3 mm, 160 gf; Part Number: 434121043816; Rated Current: 50 mA; Operation Force: 160 gf; Rated Voltage: 12 VDC; ComponentLink1Description: Manufacturer; ComponentLink1URL: http://www.we-online.de; ComponentLink2Description: Datasheet; ComponentLink2URL: http://katalog.we-online.de/em/datasheet/4341x1xxx8x6.pdf; Published Date: Nov. 2017; Publisher: Wurth Elektronik; Life Cycle: 50000; Operating Temperature: -40 to +85 degC; Size: 6x3.5x4.3 mm
footprint 434121043816
pins: 1, 2

## 434121043836
designator S?
6x3.5mm SMD WS-TASV, height 4.3 mm, 360 gf; Part Number: 434121043836; Rated Current: 50 mA; Operation Force: 360 gf; Rated Voltage: 12 VDC; ComponentLink1Description: Manufacturer; ComponentLink1URL: http://www.we-online.de; ComponentLink2Description: Datasheet; ComponentLink2URL: http://katalog.we-online.de/em/datasheet/4341x1xxx8x6.pdf; Published Date: Nov. 2017; Publisher: Wurth Elektronik; Life Cycle: 50000; Operating Temperature: -40 to +85 degC; Size: 6x3.5x4.3 mm
footprint 434121043836
pins: 1, 2

## 434121050816
designator S?
6x3.5mm SMD WS-TASV, height 5 mm, 160 gf; Part Number: 434121050816; Rated Current: 50 mA; Operation Force: 160 gf; Rated Voltage: 12 VDC; ComponentLink1Description: Manufacturer; ComponentLink1URL: http://www.we-online.de; ComponentLink2Description: Datasheet; ComponentLink2URL: http://katalog.we-online.de/em/datasheet/4341x1xxx8x6.pdf; Published Date: Nov. 2017; Publisher: Wurth Elektronik; Life Cycle: 50000; Operating Temperature: -40 to +85 degC; Size: 6x3.5x5 mm
footprint 434121050816
pins: 1, 2

## 434121050836
designator S?
6x3.5mm SMD WS-TASV, height 5 mm, 360 gf; Part Number: 434121050836; Rated Current: 50 mA; Operation Force: 360 gf; Rated Voltage: 12 VDC; ComponentLink1Description: Manufacturer; ComponentLink1URL: http://www.we-online.de; ComponentLink2Description: Datasheet; ComponentLink2URL: http://katalog.we-online.de/em/datasheet/4341x1xxx8x6.pdf; Published Date: Nov. 2017; Publisher: Wurth Elektronik; Life Cycle: 50000; Operating Temperature: -40 to +85 degC; Size: 6x3.5x5 mm
footprint 434121050836
pins: 1, 2

## 434123025816
designator S?
6x3.8mm SMD J-Bend WS-TASV, height 2.5 mm, 160 gf; Part Number: 434123025816; Rated Current: 50 mA; Operation Force: 160 gf; Rated Voltage: 12 VDC; ComponentLink1Description: Manufacturer; ComponentLink1URL: http://www.we-online.de; ComponentLink2Description: Datasheet; ComponentLink2URL: http://katalog.we-online.de/em/datasheet/4341x30258xx.pdf; Published Date: Nov. 2017; Publisher: Wurth Elektronik; Life Cycle: 50000; Operating Temperature: -40 to +85 degC; Size: 6x3.8x2.5 mm
footprint 434123025816
pins: 1, 2

## 434123025826
designator S?
4.2x3.2mm J-Bend SMD Tact Switch WS-TASV, height 2.5 mm, 260 gf; Part Number: 434123025826; Rated Current: 50 mA; Operation Force: 260 gf; Rated Voltage: 16 VDC; ComponentLink1Description: Manufacturer; ComponentLink1URL: http://www.we-online.de; ComponentLink2Description: Datasheet; ComponentLink2URL: http://katalog.we-online.de/em/datasheet/434123025826.pdf; Published Date: Nov. 2017; Publisher: Wurth Elektronik; Life Cycle: 50000; Operating Temperature: -40 to +85 degC; Size: 4.2x3.2x2.5 mm
footprint 434123025826
pins: 1, 2, 3, 4

## 434123043816
designator S?
6x3.5mm SMD-J-Bend WS-TASV, height 4.3 mm, 160 gf; Part Number: 434123043816; Rated Current: 50 mA; Operation Force: 160 gf; Rated Voltage: 12 VDC; ComponentLink1Description: Manufacturer; ComponentLink1URL: http://www.we-online.de; ComponentLink2Description: Datasheet; ComponentLink2URL: http://katalog.we-online.de/em/datasheet/4341x3xxx8x6.pdf; Published Date: Nov. 2017; Publisher: Wurth Elektronik; Life Cycle: 50000; Operating Temperature: -40 to +85 degC; Size: 6x3.5x4.3 mm
footprint 434123043816
pins: 1, 2

## 434123043836
designator S?
6x3.5mm SMD-J-Bend WS-TASV, height 4.3 mm, 360 gf; Part Number: 434123043836; Rated Current: 50 mA; Operation Force: 360 gf; Rated Voltage: 12 VDC; ComponentLink1Description: Manufacturer; ComponentLink1URL: http://www.we-online.de; ComponentLink2Description: Datasheet; ComponentLink2URL: http://katalog.we-online.de/em/datasheet/4341x3xxx8x6.pdf; Published Date: Nov. 2017; Publisher: Wurth Elektronik; Life Cycle: 50000; Operating Temperature: -40 to +85 degC; Size: 6x3.5x4.3 mm
footprint 434123043836
pins: 1, 2

## 434123050816
designator S?
6x3.5mm SMD-J-Bend WS-TASV, height 5 mm, 160 gf; Part Number: 434123050816; Rated Current: 50 mA; Operation Force: 160 gf; Rated Voltage: 12 VDC; ComponentLink1Description: Manufacturer; ComponentLink1URL: http://www.we-online.de; ComponentLink2Description: Datasheet; ComponentLink2URL: http://katalog.we-online.de/em/datasheet/4341x3xxx8x6.pdf; Published Date: Nov. 2017; Publisher: Wurth Elektronik; Life Cycle: 50000; Operating Temperature: -40 to +85 degC; Size: 6x3.5x5 mm
footprint 434123050816
pins: 1, 2

## 434123050836
designator S?
6x3.5mm SMD-J-Bend WS-TASV, height 5 mm, 360 gf; Part Number: 434123050836; Rated Current: 50 mA; Operation Force: 360 gf; Rated Voltage: 12 VDC; ComponentLink1Description: Manufacturer; ComponentLink1URL: http://www.we-online.de; ComponentLink2Description: Datasheet; ComponentLink2URL: http://katalog.we-online.de/em/datasheet/4341x3xxx8x6.pdf; Published Date: Nov. 2017; Publisher: Wurth Elektronik; Life Cycle: 50000; Operating Temperature: -40 to +85 degC; Size: 6x3.5x5 mm
footprint 434123050836
pins: 1, 2

## 434133025816
designator S?
4.2x3.2mm J-Bend SMD Tact Switch WS-TASV, height 2.5 mm, 160 gf; Part Number: 434133025816; Rated Current: 50 mA; Operation Force: 160 gf; Rated Voltage: 16 VDC; ComponentLink1Description: Manufacturer; ComponentLink1URL: http://www.we-online.de; ComponentLink2Description: Datasheet; ComponentLink2URL: http://katalog.we-online.de/em/datasheet/434133025816.pdf; Published Date: Nov. 2017; Publisher: Wurth Elektronik; Life Cycle: 100000; Operating Temperature: -40 to +85 degC; Size: 4.2x3.2x2.5 mm
footprint 434133025816
pins: 1, 2, 3, 4

## 434153017835
designator S?
3.5x2.9mm SMD J-Bend WS-TASV, height 1.7 mm, 350 gf; Part Number: 434153017835; Rated Current: 50 mA; Operation Force: 350 gf; Rated Voltage: 12 VDC; ComponentLink1Description: Manufacturer; ComponentLink1URL: http://www.we-online.de; ComponentLink2Description: Datasheet; ComponentLink2URL: http://katalog.we-online.de/em/datasheet/434153017835.pdf; Published Date: Nov. 2017; Publisher: Wurth Elektronik; Life Cycle: 200000; Operating Temperature: -40 to +85 degC; Size: 3.5x2.9x1.7 mm
footprint 434153017835
pins: 1, 2, 3, 4